# Altium footprint library testpad.PCBLIB: 42 footprints (part 3 of 3)
Each footprint in its own frame and in the unit in brackets; x right, y up, seen from the top. Pads: shape width x height; smd on the part's side, far side on the other; paste and mask are expansions set on the pad; w line width, h text height; cw(c..) or ccw(c..) is an arc to the next point about the centre after c.
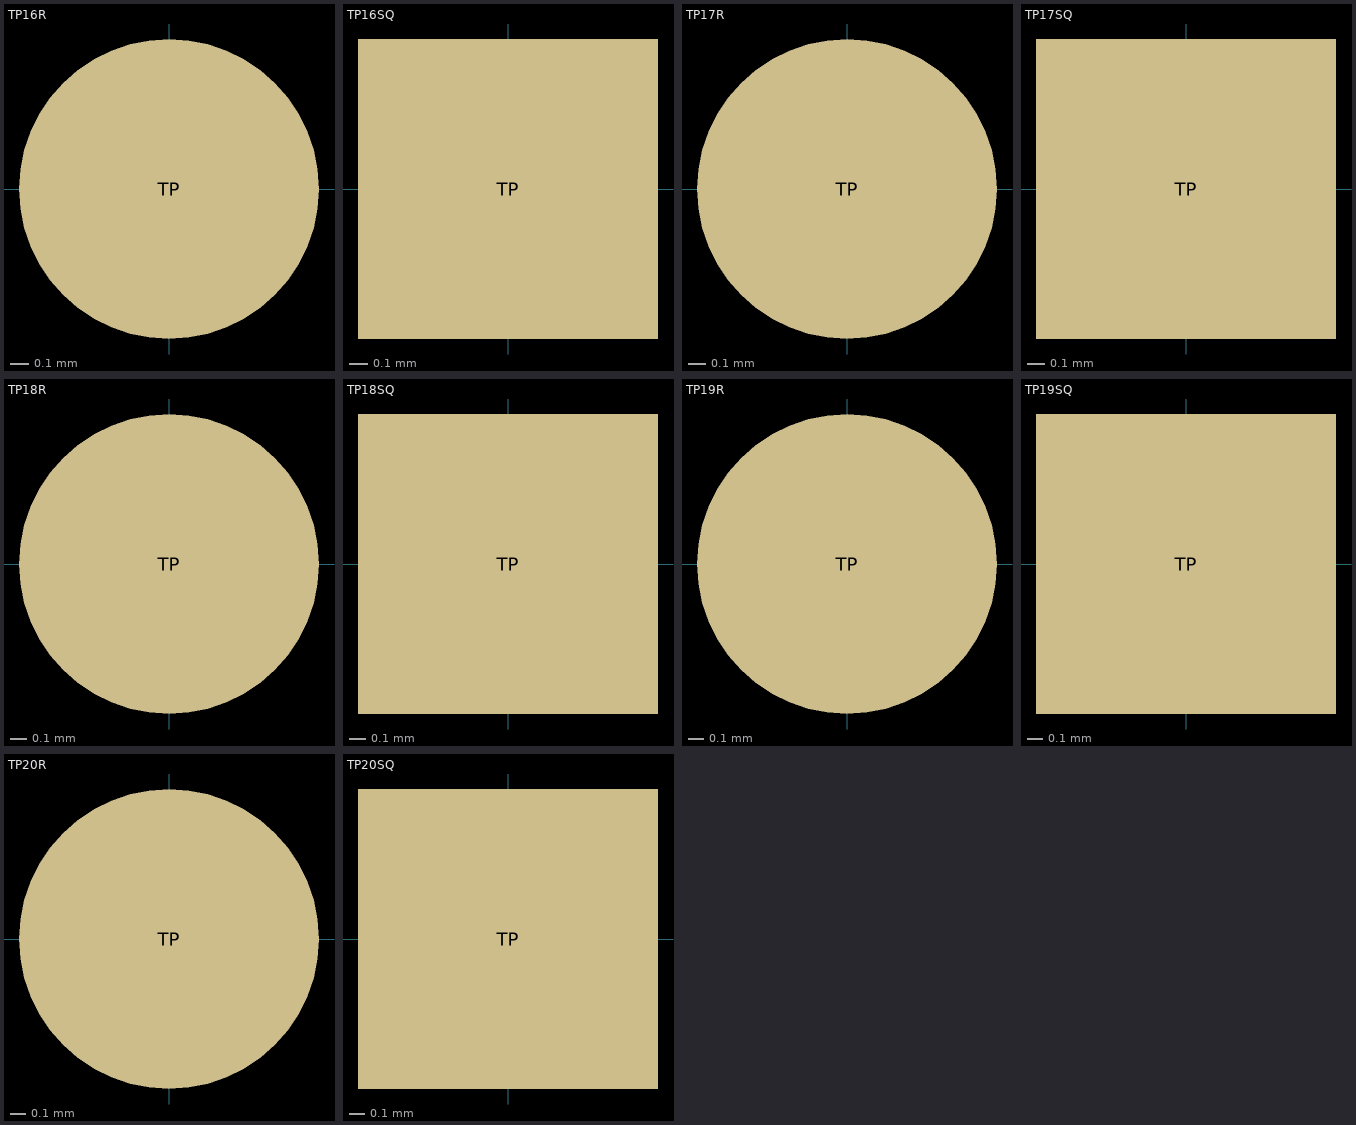
[diagram p2: the footprints below, top view; thin cyan lines are the x and y axes]

## TP16R [mil]
pads (1):
  rrect100% 62.99x62.99 smd paste-31.5: TP(0,0)

## TP16SQ [mil]
pads (1):
  rect 62.98x62.98 smd paste-31.49: TP(0,0)

## TP17R [mil]
pads (1):
  rrect100% 66.93x66.93 smd paste-33.47: TP(0,0)

## TP17SQ [mil]
pads (1):
  rect 66.93x66.93 smd paste-33.47: TP(0,0)

## TP18R [mil]
pads (1):
  rrect100% 70.87x70.87 smd paste-35.44: TP(0,0)

## TP18SQ [mil]
pads (1):
  rect 70.87x70.87 smd paste-35.44: TP(0,0)

## TP19R [mil]
pads (1):
  rrect100% 74.8x74.8 smd paste-37.4: TP(0,0)

## TP19SQ [mil]
pads (1):
  rect 74.8x74.8 smd paste-37.4: TP(0,0)

## TP20R [mm]
pads (1):
  rrect100% 2x2 smd paste-1: TP(0,0)

## TP20SQ [mm]
pads (1):
  rect 2x2 smd paste-1: TP(0,0)